# Altium footprint library CSTCE8M00G15L99-R0.PcbLib: 1 footprints
Each footprint in its own frame and in the unit in brackets; x right, y up, seen from the top. Pads: shape width x height; smd on the part's side, far side on the other; paste and mask are expansions set on the pad; w line width, h text height; cw(c..) or ccw(c..) is an arc to the next point about the centre after c.
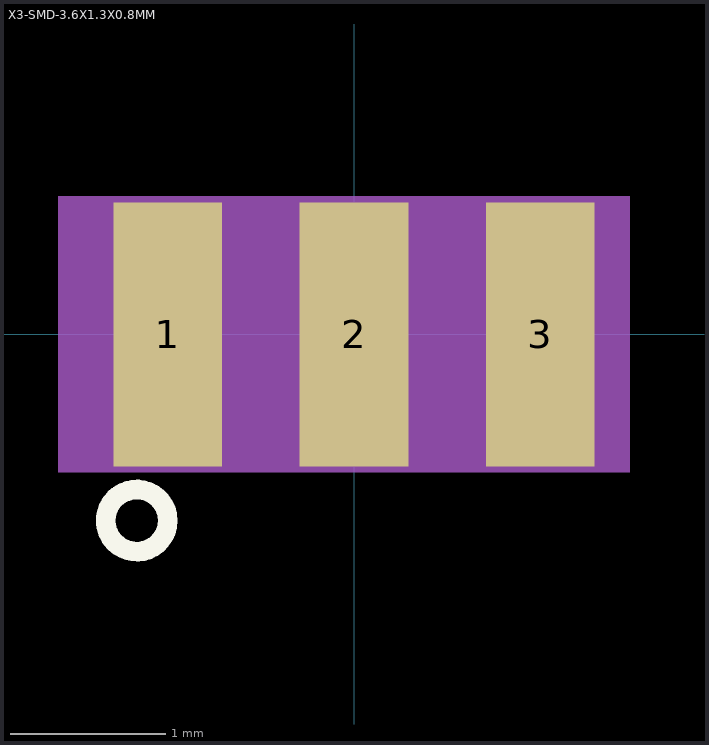
[diagram p0: the footprint, top view; thin cyan lines are the x and y axes]

## X3-SMD-3.6X1.3X0.8MM [mm]
pads (3):
  rect 0.7x1.7 smd: 1(-1.2,0) 2(0,0) 3(1.2,0)
Top Overlay:
  circle w0.127: c-1.4,-1.2 r0.2
Mechanical 13:
  lines w0.127: -1.6,-0.65 -1.6,0.65 1.6,0.65 1.6,-0.65 -1.6,-0.65
Mechanical 15:
  region: 1.778,-0.889 -1.905,-0.889 -1.905,0.889 1.778,0.889